# Altium footprint library K60-mainboard-v3.1.PcbLib: 108 footprints (part 5 of 7)
Each footprint in its own frame and in the unit in brackets; x right, y up, seen from the top. Pads: shape width x height; smd on the part's side, far side on the other; paste and mask are expansions set on the pad; w line width, h text height; cw(c..) or ccw(c..) is an arc to the next point about the centre after c.
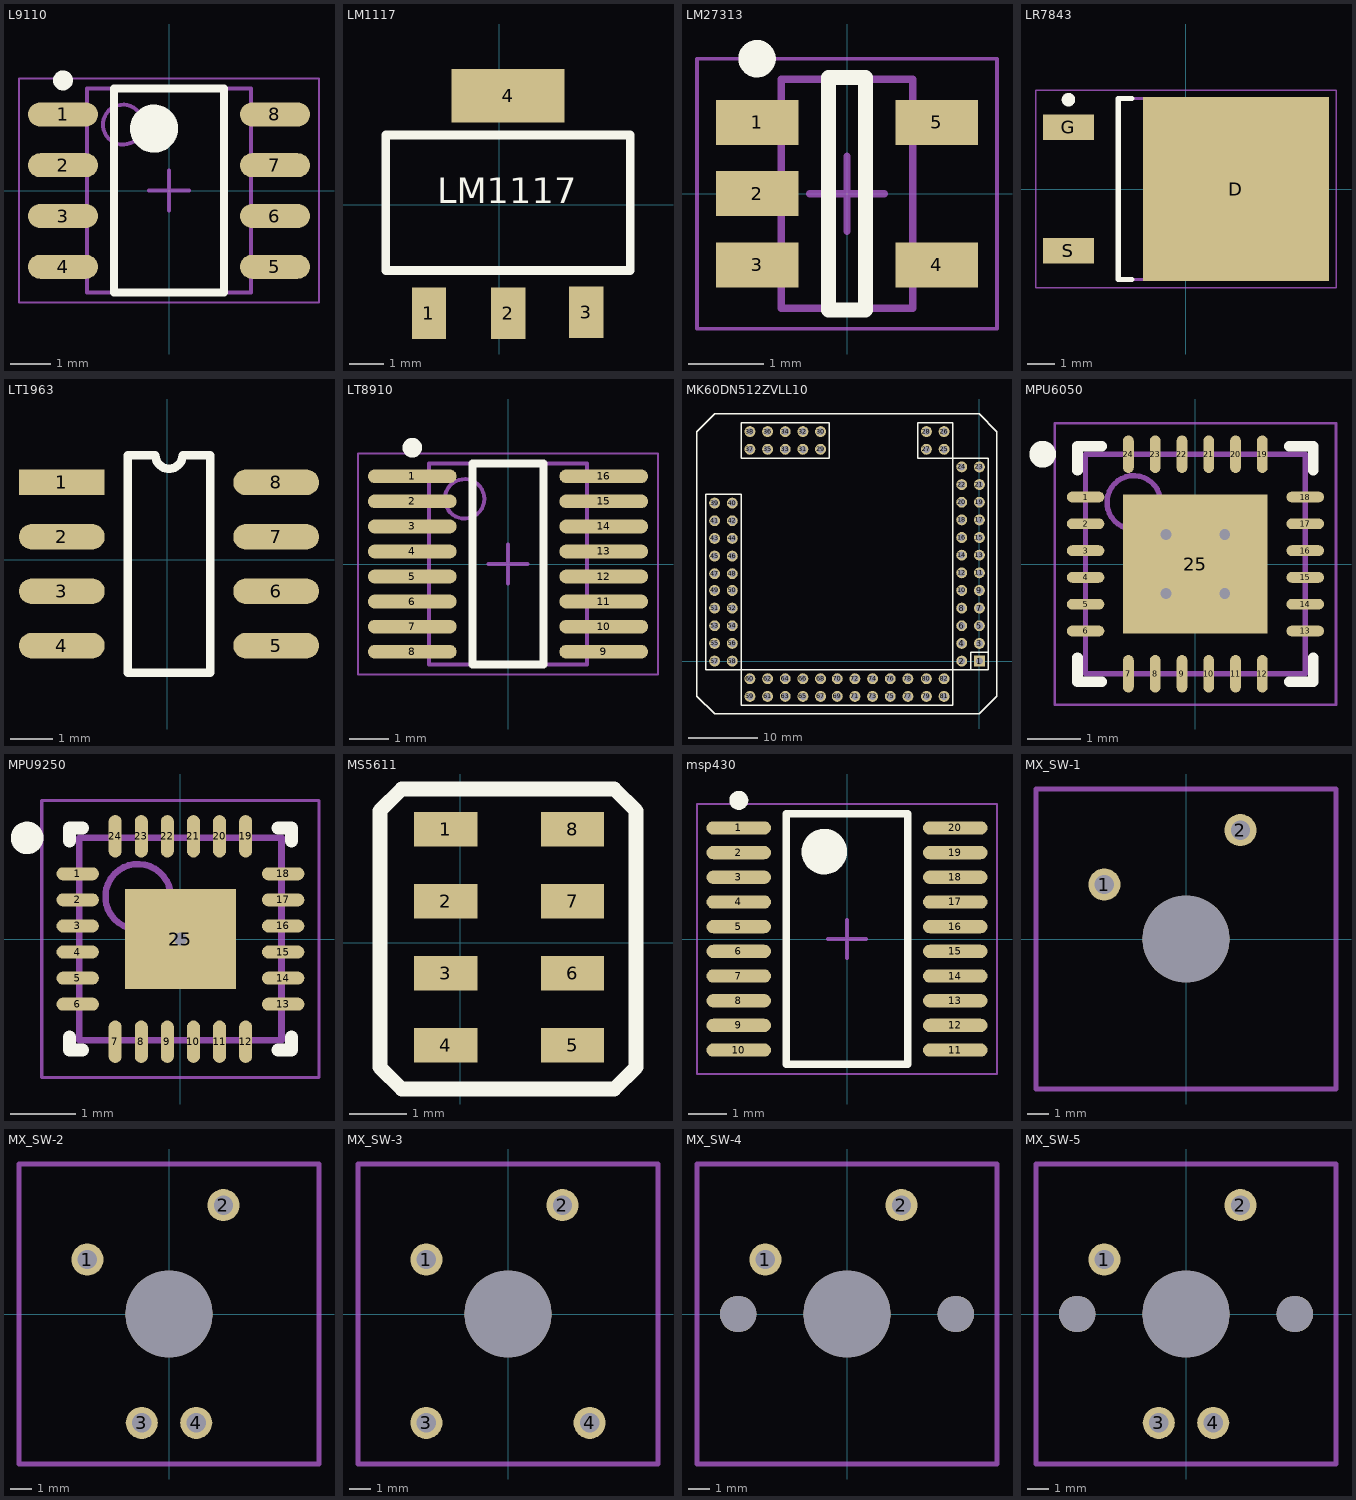
[diagram p4: the footprints below, top view; thin cyan lines are the x and y axes]

## L9110 [mm]
height 1.77
pads (8):
  oval 1.75x0.6 smd: 1(-2.65,1.905) 2(-2.65,0.635) 3(-2.65,-0.635) 4(-2.65,-1.905) 5(2.65,-1.905) 6(2.65,-0.635) 7(2.65,0.635) 8(2.65,1.905)
Top Overlay:
  circle w0.25: c-2.65,2.755 r0.125
  circle w0.6: c-0.375,1.55 r0.3
  lines w0.2: -1.375,-2.55 -1.375,2.55 1.375,2.55 1.375,-2.55 -1.375,-2.55
Mechanical 13:
  circle w0.1: c-1.15,1.65 r0.5
  lines w0.1: -2.05,-2.55 -2.05,2.55 2.05,2.55 2.05,-2.55 -2.05,-2.55
Mechanical 15:
  lines w0.05: -3.75,-2.8 -3.75,2.8 3.75,2.8 3.75,-2.8 -3.75,-2.8
  lines w0.1: -0.5,0 0.5,0 ; 0,-0.5 0,0.5
3D body: height 1.77, standoff 0.08, extent -2.05,-2.55 2.05,2.55

## LM1117 [mm]
height 1.76
pads (4):
  rect 1x1.5 smd: 1(-2.043,-3.148) 2(0.256,-3.148) 3(2.53,-3.123)
  rect 3.3x1.549 smd: 4(0.254,3.175)
Top Overlay:
  lines w0.254: -3.302,-1.905 -3.302,2.032 3.81,2.032 3.81,-1.905 -3.302,-1.905
  text "LM1117" at -1.8,-0.2 h1.27

## LM27313 [mm] "SOT23, 5-Leads, Body 2.90x2.80mm, Pitch 0.95mm, IPC Medium Density"
height 1.45
pads (5):
  rect 1.1x0.6 smd: 1(-1.2,0.95) 2(-1.2,0) 3(-1.2,-0.95) 4(1.2,-0.95) 5(1.2,0.95)
Top Overlay:
  circle w0.25: c-1.2,1.8 r0.125
  lines w0.2: -0.25,-1.55 -0.25,1.55 0.25,1.55 0.25,-1.55 -0.25,-1.55
Mechanical 13:
  lines w0.1: -0.875,-1.525 0.875,-1.525 0.875,1.525 -0.875,1.525 -0.875,-1.525
Mechanical 15:
  lines w0.05: -2,-1.8 2,-1.8 2,1.8 -2,1.8 -2,-1.8
  lines w0.1: -0.5,0 0.5,0 ; 0,-0.5 0,0.5
3D body: height 1.45, standoff 0.05, extent -0.875,-1.525 0.875,1.525

## LR7843 [mm] "D-PAK, 3-Pads, Body 6.20x6.72mm (max), IPC Medium Density"
height 2.38
pads (3):
  rect 6.9x6.8 smd: D(1.85,0)
  rect 1.9x0.95 smd: G(-4.35,2.28) S(-4.35,-2.28)
Top Overlay:
  circle w0.25: c-4.35,3.305 r0.125
  lines w0.2: -2,-3.35 -2.5,-3.35 -2.5,3.35 -2,3.35
Mechanical 13:
  lines w0.1: -2.5,-3.35 -2.5,3.35 3.7,3.35 3.7,-3.35 -2.5,-3.35
Mechanical 15:
  lines w0.05: -5.55,-3.65 -5.55,3.65 5.55,3.65 5.55,-3.65 -5.55,-3.65
  lines w0.1: -0.5,0 0.5,0 ; 0,-0.5 0,0.5
3D body: height 2.38, standoff 0, extent -2.5,-3.35 3.7,3.35

## LT1963 [mm]
pads (8):
  rect 2x0.6 smd: 1(-2.46,1.803)
  oval 2x0.6 smd: 2(-2.46,0.533) 3(-2.46,-0.737) 4(-2.46,-2.007) 5(2.54,-2.007) 6(2.54,-0.737) 7(2.54,0.533) 8(2.54,1.803)
Top Overlay:
  lines w0.2: -0.925,-2.642 -0.925,2.438 -0.278,2.438 ccw(c0.04,2.438) 0.357,2.438 1.005,2.438 1.005,-2.642 -0.925,-2.642

## LT8910 [mm] "SOP, 16-Leads, Body 4.90x3.90mm, Pitch 0.64mm, IPC Medium Density"
height 1.75
pads (16):
  oval 2.25x0.35 smd: 1(-2.425,2.222) 2(-2.425,1.587) 3(-2.425,0.953) 4(-2.425,0.318) 5(-2.425,-0.318) 6(-2.425,-0.953) 7(-2.425,-1.587) 8(-2.425,-2.222) 9(2.425,-2.222) 10(2.425,-1.587) 11(2.425,-0.953) 12(2.425,-0.318) 13(2.425,0.318) 14(2.425,0.953) 15(2.425,1.587) 16(2.425,2.222)
Top Overlay:
  circle w0.25: c-2.425,2.947 r0.125
  lines w0.2: -0.9,-2.55 0.9,-2.55 0.9,2.55 -0.9,2.55 -0.9,-2.55
Mechanical 13:
  circle w0.1: c-1.1,1.65 r0.5
  lines w0.1: -2,-2.55 2,-2.55 2,2.55 -2,2.55 -2,-2.55
Mechanical 15:
  lines w0.05: -3.8,-2.8 3.8,-2.8 3.8,2.8 -3.8,2.8 -3.8,-2.8
  lines w0.1: -0.5,0 0.5,0 ; 0,-0.5 0,0.5
3D body: height 1.75, standoff 0.1, extent -2,-2.55 2,2.55

## MK60DN512ZVLL10 [mil]
height 69.29
pads (82):
  rect 62x62 hole 40: 1(0,0)
  round 62 hole 40: 2(-100,0) 3(0,100) 4(-100,100) 5(0,200) 6(-100,200) 7(0,300) 8(-100,300) 9(0,400) 10(-100,400) 11(0,500) 12(-100,500) 13(0,600) 14(-100,600) 15(0,700) 16(-100,700) 17(0,800) 18(-100,800) 19(0,900) 20(-100,900) 21(0,1000) 22(-100,1000) 23(0,1100) 24(-100,1100) 25(-200,1200) 26(-200,1300) 27(-300,1200) 28(-300,1300) 29(-900,1200) 30(-900,1300) 31(-1000,1200) 32(-1000,1300) 33(-1100,1200) 34(-1100,1300) 35(-1200,1200) 36(-1200,1300) 37(-1300,1200) 38(-1300,1300) 39(-1500,895) 40(-1400,895) 41(-1500,795) 42(-1400,795) 43(-1500,695) 44(-1400,695) 45(-1500,595) 46(-1400,595) 47(-1500,495) 48(-1400,495) 49(-1500,400) 50(-1400,400) 51(-1500,300) 52(-1400,300) 53(-1500,200) 54(-1400,200) 55(-1500,100) 56(-1400,100) 57(-1500,0) 58(-1400,0) 59(-1300,-200) 60(-1300,-100) 61(-1200,-200) 62(-1200,-100) 63(-1100,-200) 64(-1100,-100) 65(-1000,-200) 66(-1000,-100) 67(-900,-200) 68(-900,-100) 69(-805,-200) 70(-805,-100) 71(-705,-200) 72(-705,-100) 73(-605,-200) 74(-605,-100) 75(-505,-200) 76(-505,-100) 77(-405,-200) 78(-405,-100) 79(-300,-200) 80(-300,-100) 81(-200,-200) 82(-200,-100)
Top Overlay:
  lines w8: -50,-50 -50,50 50,50 ; -1350,-50 -1350,945 -1550,945 -1550,-50 -1350,-50 ; -1350,-50 -1350,-250 -150,-250 -150,-50 ; -1350,-50 -150,-50 ; -150,-50 50,-50 50,1150 -150,1150 ; -150,-50 -150,1150 ; -150,1150 -350,1150 -350,1350 -150,1350 -150,1150 ; -1600,-200 -1600,1300 -1500,1400 0,1400 100,1300 100,-200 0,-300 -1500,-300 -1600,-200 ; -1350,1150 -1350,1350 -850,1350 -850,1150 -1350,1150

## MPU6050 [mm] "QFN, 24-Leads, Body 4.00x4.00mm, Pitch 0.50mm, Thermal Pad 2.60x2.70mm, IPC Medium Density"
height 0.95
pads (25):
  oval 0.7x0.2 smd: 1(-2.05,1.25) 2(-2.05,0.75) 3(-2.05,0.25) 4(-2.05,-0.25) 5(-2.05,-0.75) 6(-2.05,-1.25) 13(2.05,-1.25) 14(2.05,-0.75) 15(2.05,-0.25) 16(2.05,0.25) 17(2.05,0.75) 18(2.05,1.25)
  oval 0.2x0.7 smd: 7(-1.25,-2.05) 8(-0.75,-2.05) 9(-0.25,-2.05) 10(0.25,-2.05) 11(0.75,-2.05) 12(1.25,-2.05) 19(1.25,2.05) 20(0.75,2.05) 21(0.25,2.05) 22(-0.25,2.05) 23(-0.75,2.05) 24(-1.25,2.05)
  rect 2.7x2.6 smd: 25(0,0)
via -0.55,0.55 diameter 0.5 hole 0.2
via 0.55,0.55 diameter 0.5 hole 0.2
via -0.55,-0.55 diameter 0.5 hole 0.2
via 0.55,-0.55 diameter 0.5 hole 0.2
Top Overlay:
  circle w0.25: c-2.85,2.05 r0.125
  lines w0.2: -2.2,-1.75 -2.2,-2.2 -1.75,-2.2 ; -2.2,1.75 -2.2,2.2 -1.75,2.2 ; 1.75,-2.2 2.2,-2.2 2.2,-1.75 ; 1.75,2.2 2.2,2.2 2.2,1.75
Mechanical 13:
  circle w0.1: c-1.15,1.15 r0.5
  lines w0.1: -2.05,-2.05 -2.05,2.05 2.05,2.05 2.05,-2.05 -2.05,-2.05
Mechanical 15:
  lines w0.05: -2.625,-2.625 -2.625,2.625 2.625,2.625 2.625,-2.625 -2.625,-2.625
  lines w0.1: -0.5,0 0.5,0 ; 0,-0.5 0,0.5
3D body: height 0.95, standoff 0, extent -2.05,-2.05 2.05,2.05

## MPU9250 [mm] "QFN, 24-Leads, Body 3.00x3.00mm, Pitch 0.40mm, Thermal Pad 1.54x1.70mm, IPC Medium Density"
height 0.95
pads (25):
  oval 0.65x0.2 smd: 1(-1.575,1) 2(-1.575,0.6) 3(-1.575,0.2) 4(-1.575,-0.2) 5(-1.575,-0.6) 6(-1.575,-1) 13(1.575,-1) 14(1.575,-0.6) 15(1.575,-0.2) 16(1.575,0.2) 17(1.575,0.6) 18(1.575,1)
  oval 0.2x0.65 smd: 7(-1,-1.575) 8(-0.6,-1.575) 9(-0.2,-1.575) 10(0.2,-1.575) 11(0.6,-1.575) 12(1,-1.575) 19(1,1.575) 20(0.6,1.575) 21(0.2,1.575) 22(-0.2,1.575) 23(-0.6,1.575) 24(-1,1.575)
  rect 1.7x1.54 smd: 25(0,0)
via 0,0 diameter 0.5 hole 0.2
Top Overlay:
  circle w0.25: c-2.35,1.55 r0.125
  lines w0.2: -1.7,-1.5 -1.7,-1.7 -1.5,-1.7 ; -1.7,1.5 -1.7,1.7 -1.5,1.7 ; 1.5,-1.7 1.7,-1.7 1.7,-1.5 ; 1.5,1.7 1.7,1.7 1.7,1.5
Mechanical 13:
  circle w0.1: c-0.65,0.65 r0.5
  lines w0.1: -1.55,-1.55 -1.55,1.55 1.55,1.55 1.55,-1.55 -1.55,-1.55
Mechanical 15:
  lines w0.05: -2.125,-2.125 -2.125,2.125 2.125,2.125 2.125,-2.125 -2.125,-2.125
  lines w0.1: -0.5,0 0.5,0 ; 0,-0.5 0,0.5
3D body: height 0.95, standoff 0, extent -1.55,-1.55 1.55,1.55

## MS5611 [mm]
pads (8):
  rect 1.1x0.6 smd: 1(-0.254,1.972) 2(-0.254,0.722) 3(-0.254,-0.528) 4(-0.254,-1.778) 5(1.946,-1.778) 6(1.946,-0.528) 7(1.946,0.722) 8(1.946,1.972)
Top Overlay:
  lines w0.254: -1.397,-2.159 -1.016,-2.54 2.667,-2.54 3.048,-2.159 3.048,2.286 2.667,2.667 -1.016,2.667 -1.397,2.286 -1.397,-2.159

## msp430 [mm] "TSOP, 20-Leads, Body 6.50x4.40mm, Pitch 0.65mm, IPC Medium Density"
height 1.2
pads (20):
  oval 1.7x0.35 smd: 1(-2.85,2.925) 2(-2.85,2.275) 3(-2.85,1.625) 4(-2.85,0.975) 5(-2.85,0.325) 6(-2.85,-0.325) 7(-2.85,-0.975) 8(-2.85,-1.625) 9(-2.85,-2.275) 10(-2.85,-2.925) 11(2.85,-2.925) 12(2.85,-2.275) 13(2.85,-1.625) 14(2.85,-0.975) 15(2.85,-0.325) 16(2.85,0.325) 17(2.85,0.975) 18(2.85,1.625) 19(2.85,2.275) 20(2.85,2.925)
Top Overlay:
  circle w0.6: c-0.6,2.3 r0.3
  circle w0.25: c-2.85,3.65 r0.125
  lines w0.2: -1.6,-3.3 1.6,-3.3 1.6,3.3 -1.6,3.3 -1.6,-3.3
Mechanical 15:
  lines w0.05: -3.95,-3.55 3.95,-3.55 3.95,3.55 -3.95,3.55 -3.95,-3.55
  lines w0.1: -0.5,0 0.5,0 ; 0,-0.5 0,0.5

## MX_SW-1 [mm] "without Fixation pins  1-Pole"
pads (3):
  round 1.5 hole 0.9: 1(-3.81,2.54) 2(2.54,5.08)
  round 4.064 hole 4.064: ""(0,0)
Mechanical 1:
  lines w0.254: -7,-7 7,-7 7,7 -7,7 -7,-7

## MX_SW-2 [mm] "without Fixation pins  1-Pole w/LED"
pads (5):
  round 1.5 hole 0.9: 1(-3.81,2.54) 2(2.54,5.08) 3(-1.27,-5.08) 4(1.27,-5.08)
  round 4.064 hole 4.064: ""(0,0)
Mechanical 1:
  lines w0.254: -7,-7 -7,7 7,7 7,-7 -7,-7

## MX_SW-3 [mm] "without Fixation pins  1-Pole w/Diode"
pads (5):
  round 1.5 hole 0.9: 1(-3.81,2.54) 2(2.54,5.08) 3(-3.81,-5.08) 4(3.81,-5.08)
  round 4.064 hole 4.064: ""(0,0)
Mechanical 1:
  lines w0.254: -7,-7 7,-7 7,7 -7,7 -7,-7

## MX_SW-4 [mil] "with Fixation pins  1-Pole"
pads (5):
  round 59.06 hole 35.43: 1(-150,100) 2(100,200)
  round 67 hole 67: ""(-200,0) ""(200,0)
  round 160 hole 160: ""(0,0)
Mechanical 1:
  lines w10: -275.59,-275.59 275.59,-275.59 275.59,275.59 -275.59,275.59 -275.59,-275.59

## MX_SW-5 [mm] "with Fixation pins  1-Pole w/LED"
pads (7):
  round 1.5 hole 0.9: 1(-3.81,2.54) 2(2.54,5.08) 3(-1.27,-5.08) 4(1.27,-5.08)
  round 1.702 hole 1.702: ""(-5.08,0) ""(5.08,0)
  round 4.064 hole 4.064: ""(0,0)
Mechanical 1:
  lines w0.254: -7,-7 -7,7 7,7 7,-7 -7,-7